# Altium schematic symbol library connectors.SchLib: 4 symbols
Pins are listed as number, name and electrical type; pins without a type are passive.

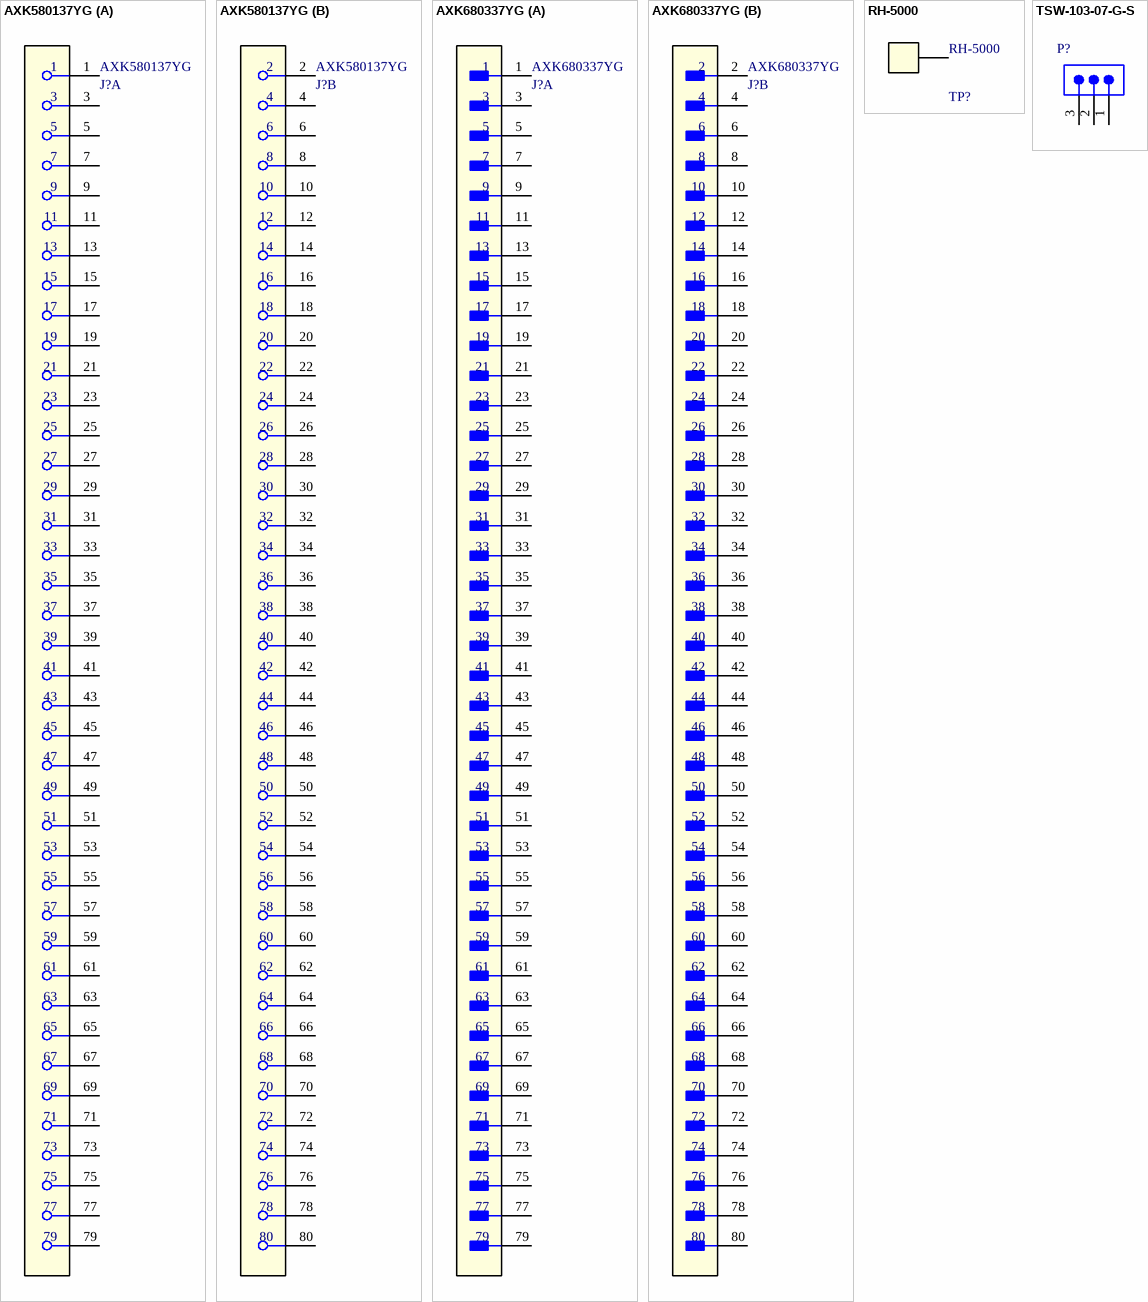
[diagram p0: symbols AXK580137YG to TSW-103-07-G-S]

## AXK580137YG
designator J?
AXK580137YG AXK5(P5K) Socket(0.5mm pitch, 80-pin, Ni-barrier) w/ positioning boss (RoHS conforming); NexarPartId: 7879030; Mated Stacking Heights: 3.5mm; Max Voltage Rating (DC): 6.06kV; Number of Contacts: 80; Current Rating: 500mA; Pitch: 500µm; Max Current Rating: 10A; Voltage Rating: 60V; Number of Rows: 2; Height: 2.55mm; Housing Material: Resin; Contact Material: Gold, Nickel; Connector Type: Socket; RoHS: Compliant; Min Operating Temperature: -55°C; Contact Plating: Gold; Packaging: Tape & Reel (TR); Max Operating Temperature: 85°C; Mount: Surface Mount; Ambient Temperature Range High: 85°C; Number of Positions: 80; Termination: SMD/SMT; Orientation: Straight
footprint FP-AXK580137YG-MFG
part A pins: 1, 3, 5, 7, 9, 11, 13, 15, 17, 19, 21, 23, 25, 27, 29, 31, 33, 35, 37, 39, 41, 43, 45, 47, 49, 51, 53, 55, 57, 59, 61, 63, 65, 67, 69, 71, 73, 75, 77, 79
part B pins: 2, 4, 6, 8, 10, 12, 14, 16, 18, 20, 22, 24, 26, 28, 30, 32, 34, 36, 38, 40, 42, 44, 46, 48, 50, 52, 54, 56, 58, 60, 62, 64, 66, 68, 70, 72, 74, 76, 78, 80

## AXK680337YG
designator J?
AXK680337YG AXK6(P5K) Header(0.5mm pitch, 80-pin, Ni-barrier) w/ positioning boss (RoHS conforming); NexarPartId: 7880374; Current Rating: 500mA; Voltage Rating: 60V; Max Current Rating: 10A; Mated Stacking Heights: 3mm; Number of Positions: 80; Max Voltage Rating (DC): 6.06kV; Pitch: 500µm; Contact Resistance: 60mΩ; Contact Material: Gold, Nickel; Orientation: Straight; Housing Material: Resin; RoHS: Compliant; Height: 2.6mm; Min Operating Temperature: -55°C; Packaging: Tape & Reel (TR); Max Operating Temperature: 85°C; Ambient Temperature Range High: 85°C; Contact Plating: Gold; Number of Rows: 2; Mount: Surface Mount; Termination: SMD/SMT; Number of Contacts: 80
footprint FP-AXK680337YG-MFG
part A pins: 1, 3, 5, 7, 9, 11, 13, 15, 17, 19, 21, 23, 25, 27, 29, 31, 33, 35, 37, 39, 41, 43, 45, 47, 49, 51, 53, 55, 57, 59, 61, 63, 65, 67, 69, 71, 73, 75, 77, 79
part B pins: 2, 4, 6, 8, 10, 12, 14, 16, 18, 20, 22, 24, 26, 28, 30, 32, 34, 36, 38, 40, 42, 44, 46, 48, 50, 52, 54, 56, 58, 60, 62, 64, 66, 68, 70, 72, 74, 76, 78, 80

## RH-5000
designator TP?
PC TEST POINT MINIATURE RED; Outside Diameter: 2.54mm; Body Material: Bronze; Number of Contacts: 1; Insulation: Insulated; Inside Diameter: 1.27mm; Hole Diameter: 1.6mm; Plating: Silver; Length: 7.62mm; Package Quantity: 100; Number of Ports: 1; Contact Material: Bronze; Orientation: Straight; RoHS Compliant: Yes; Housing Color: Red; Height: 0.3inch; Series: THM; Lead Free: Lead Free; Color: Red; Contact Plating: Tin; Mount: PCB; Packaging: Bulk; REACH SVHC: No SVHC; Flammability Rating: UL94 V-0; Material: Nylon
footprint FP-5000-MFG
pins: 1

## TSW-103-07-G-S
designator P?  (value not drawn)
0.025" SQ Post Header, Through-hole, Vertical, -55 to 125 degC, 2.54 mm Pitch, 3-Pin, Male, RoHS; Manufacturer: Samtec; Pitch: 2.54 mm; ComponentLink3URL: http://www.samtec.com/documents/webfiles/cpdf/TSW-XXX-XX-XXX-X-XX-XXX-MKT.pdf; Temperature Range: -55 to 125 degC; DatasheetVersion: F-214; ComponentLink1Description: Manufacturer URL; ComponentLink2URL: http://www.samtec.com/documents/webfiles/pdf/TSW_TH.PDF; RoHS: True; Orientation: Vertical; ComponentLink2Description: Datasheet; ComponentLink3Description: Package Specification; PackageDescription: .025[0.64] SQ. Post Terminal Strip Assembly; Mounting Technology: Through-hole; PackageVersion: DM, 8/1988; ComponentLink1URL: http://www.samtec.com; PackageReference: TSW-103-07-X-S; PartNumber: TSW-103-07-G-S
footprint SMTC-TSW-103-07-X-S (.025 SQ Post Terminal Strip Assembly, 1x3 Pins, Vertical, 2.54mm Pitch, Male)
pins: 1, 2, 3